# Altium integrated library 1825116-1.IntLib: 1 symbol
Pins are listed as number, name and electrical type; pins without a type are passive.

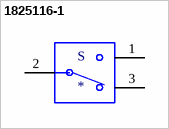
[diagram p0: symbol 1825116-1]

## 1825116-1
designator S
Slide Switch SPDT Through Hole, Right Angle; MP: 1825116-1; MF: TE Connectivity; Price: None; Value: *; EU_RoHS_Compliance: Compliant; Package: None; TE_purchase_URL: https://www.te.com/usa-en/product-1825116-1.html?te_bu=Cor&te_type=disp&te_campaign=seda_glo_cor-seda-global-disp-prtnr-fy19-seda-model-bom-cta_sma-317_1&elqCampaignId=32493; SnapEDA_Link: https://www.snapeda.com/parts/1825116-1/TE%20Connectivity%20ALCOSWITCH%20Switches/view-part/497270/?ref=snap; Availability: Unavailable
footprint SW_1825116-1
pins: 1, 2, 3